# Altium schematic symbol library 6TPE220MI (B2 case).Schlib: 1 symbol
Pins are listed as number, name and electrical type; pins without a type are passive.

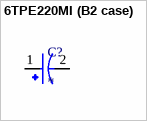
[diagram p0: symbol 6TPE220MI (B2 case)]

## 6TPE220MI (B2 case)
designator C?
pins: 1, 2